# Altium schematic symbol library Resistor_NTC.SchLib: 1 symbol
Pins are listed as number, name and electrical type; pins without a type are passive.

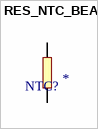
[diagram p0: symbol RES_NTC_BEAD]

## RES_NTC_BEAD
designator NTC?
THERMISTOR NTC; Package: *; Manufacturer 1: *; Manufacturer Part Number 1: *; Value: *
footprint RES_NTC_BEAD (Footprint not found)
pins: 1, 2